# Altium schematic symbol library Logic.SchLib: 6 symbols
Pins are listed as number, name and electrical type; pins without a type are passive.

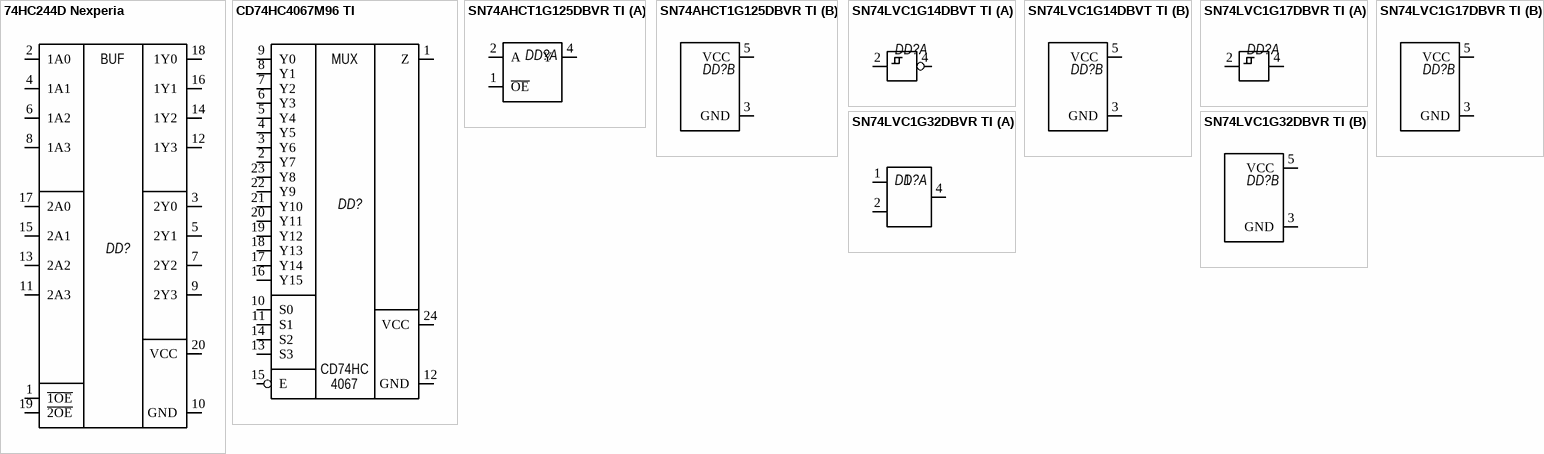
[diagram p0: symbols 74HC244D Nexperia to SN74LVC1G32DBVR TI]

## 74HC244D Nexperia
designator DD?  (value not drawn)
pins: 1 ~{1OE}, 2 1A0, 3 2Y0, 4 1A1, 5 2Y1, 6 1A2, 7 2Y2, 8 1A3, 9 2Y3, 10 GND, 11 2A3, 12 1Y3, 13 2A2, 14 1Y2, 15 2A1, 16 1Y1, 17 2A0, 18 1Y0, 19 ~{2OE}, 20 VCC
text: BUF

## CD74HC4067M96 TI
designator DD?  (value not drawn)
footprint SOIC-24/300mil
pins: 1 Z, 2 Y7, 3 Y6, 4 Y5, 5 Y4, 6 Y3, 7 Y2, 8 Y1, 9 Y0, 10 S0, 11 S1, 12 GND, 13 S3, 14 S2, 15 E, 16 Y15, 17 Y14, 18 Y13, 19 Y12, 20 Y11, 21 Y10, 22 Y9, 23 Y8, 24 VCC
text: MUX; CD74HC; 4067

## SN74AHCT1G125DBVR TI
designator DD?  (value not drawn)
footprint SOT23-5
part A pins: 1 ~{OE}, 2 A, 4 Y
part B pins: 3 GND, 5 VCC

## SN74LVC1G14DBVT TI
designator DD?  (value not drawn)
footprint SOT23-5
part A pins: 2 B, 4 Y
part B pins: 3 GND, 5 VCC

## SN74LVC1G17DBVR TI
designator DD?  (value not drawn)
footprint SOT23-5
part A pins: 2 B, 4 Y
part B pins: 3 GND, 5 VCC

## SN74LVC1G32DBVR TI
designator DD?  (value not drawn)
footprint SOT23-5
part A pins: 1 A, 2 B, 4 Y
part B pins: 3 GND, 5 VCC